# EAGLE library part 62000811121 (library Board_to_Board_Connectors_rev15d)
WR-PHD 2.00mm Pin Header, 8 Pins=>Code : Con_BTB_PHD_2.00_1_THT_62000811121 <http://katalog.we-online.de/media/images/eican/Con_BTB_PHD_2.00_1_THT_6200xx11121_pf2.jpg> Details see: http://katalog.we-online.de/en/em/620_0xx_111_21 Created 2014-06-03, Karrer Zheng 2014 (C) Würth Elektronik
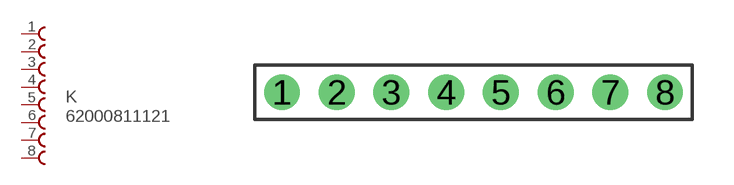
[diagram p230: symbol with the pads of 62000811121; footprint 62000811121]

Designator prefix K

## 62000811121  [62000811121]
1  1  pas
2  2  pas
3  3  pas
4  4  pas
5  5  pas
6  6  pas
7  7  pas
8  8  pas

## Footprint 62000811121 (pad centres in mm)
WR-PHD 2.00mm Pin Header, 8 Pins
drill 0.8: 1 -7,0; 2 -5,0; 3 -3,0; 4 -1,0; 5 1,0; 6 3,0; 7 5,0; 8 7,0